# EAGLE library part TPS5403DR (library TPS5403)
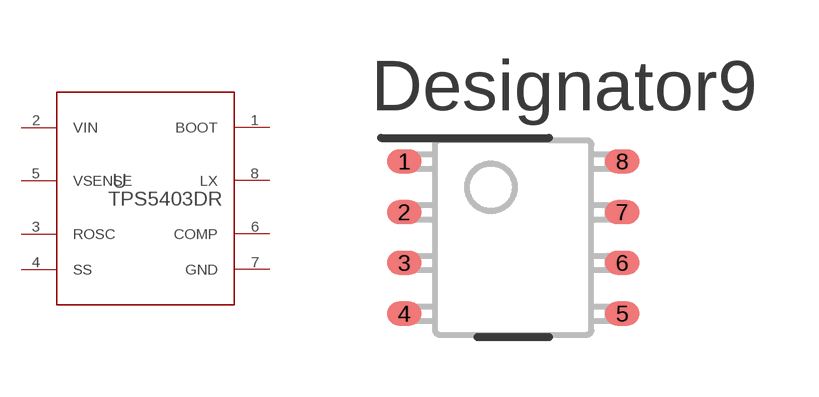
[diagram p0: symbol with the pads of D0008A_N; footprint D0008A_N]

Designator prefix U

## TPS5403DR (MANUFACTURER: Texas Instruments; PARTNUMBER: TPS5403DR; REFDES: RefDes; TYPE: TYPE; VALUE: Value)  [D0008A_N]
1  BOOT  pwr
2  VIN  pwr
3  ROSC  in
4  SS  in
5  VSENSE  in
6  COMP  pas
7  GND  pwr
8  LX  pwr

## Footprint D0008A_N (pad centres in mm)
smd 0.85 x 0.6: 1 -2.725,1.905; 2 -2.725,0.635; 3 -2.725,-0.635; 4 -2.725,-1.905; 5 2.725,-1.905; 6 2.725,-0.635; 7 2.725,0.635; 8 2.725,1.905